# EAGLE library part DPDT_SWITCH (library Eric Navarrete Custom Parts Feb 2019)
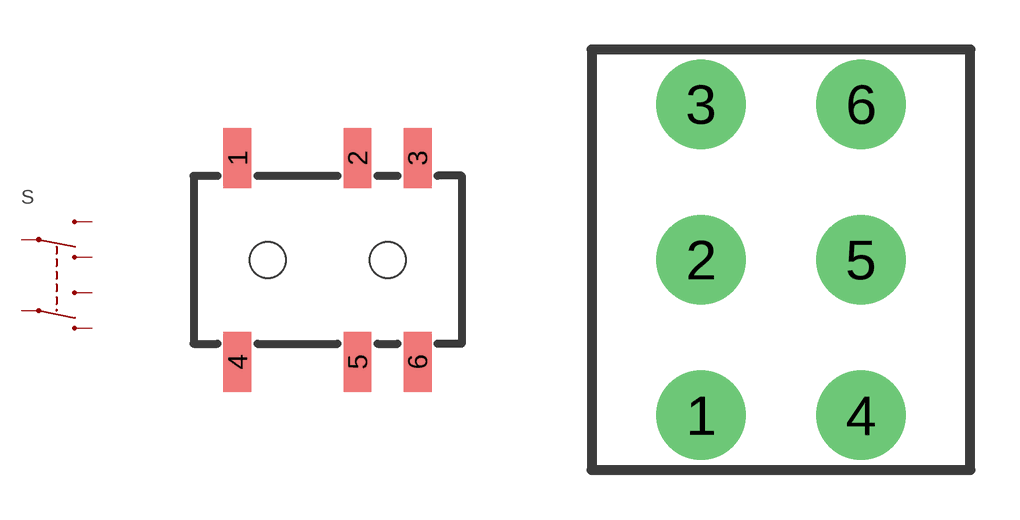
[diagram p11: symbol with the pads of SSSS820101; footprints SSSS820101, RS_PRO_734-6836]

Designator prefix S

## DPDT_SWITCHSSSS820101  [SSSS820101]
1  1  pas
2  2  pas
3  3  pas
4  4  pas
5  5  pas
6  6  pas

## DPDT_SWITCHRS_PRO_734-6836  [RS_PRO_734-6836]
Pads as for SSSS820101

## Footprint SSSS820101 (pad centres in mm)
smd 0.7 x 1.5: 1 -3,2.55; 2 0,2.55; 3 1.5,2.55; 4 -3,-2.55; 5 0,-2.55; 6 1.5,-2.55
hole 0.9 at 0.75,0
hole 0.9 at -2.25,0

## Footprint RS_PRO_734-6836 (pad centres in mm)
drill 1.8 pad 2.5: 1 -2.415,-4.7; 2 -2.415,0; 3 -2.415,4.7; 4 2.415,-4.7; 5 2.415,0; 6 2.415,4.7